# Altium schematic symbol library adc-dac.SchLib: 1 symbol
Pins are listed as number, name and electrical type; pins without a type are passive.

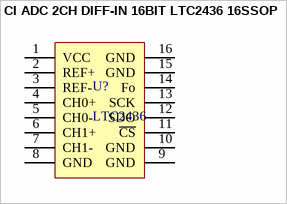
[diagram p0: symbol CI ADC 2CH DIFF-IN 16BIT LTC2436 16SSOP]

## CI ADC 2CH DIFF-IN 16BIT LTC2436 16SSOP
designator U?, comment LTC2436
16 Bit Analog to Digital Converter 2 Input 1 Sigma-Delta 16-SSOP; Manufacturer 1: Linear Technology/Analog Devices; Part Number 1: LTC2436-1CGN#PBF; Datasheet: https://www.analog.com/media/en/technical-documentation/data-sheets/24361f.pdf
footprint SSOP-16 (SOP, 16-Leads, Body 4.89x3.90mm, Pitch 0.64mm, IPC Medium Density)
pins: 1 VCC, 2 REF+, 3 REF-, 4 CH0+, 5 CH0-, 6 CH1+, 7 CH1-, 8 GND, 9 GND, 10 GND, 11 ~{CS}, 12 SDO, 13 SCK, 14 Fo, 15 GND, 16 GND